# Altium schematic symbol library RMCF0603FT51K0.SchLib: 1 symbol
Pins are listed as number, name and electrical type; pins without a type are passive.

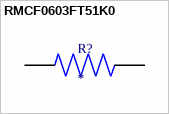
[diagram p0: symbol RMCF0603FT51K0]

## RMCF0603FT51K0
designator R?
MF: {'manufacturer': u'Stackpole Electronics Inc'}; MP: RMCF0603FT51K0; Package: None; Price: None; Value: *; Availability: Unavailable
footprint RESC1508X55N
pins: 1, 2